# Altium schematic symbol library MicrochipTechnology.SchLib: 3 symbols
Pins are listed as number, name and electrical type; pins without a type are passive.

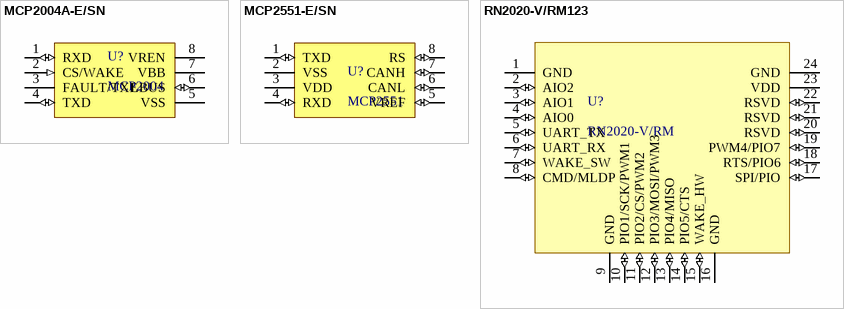
[diagram p0: symbols MCP2004A-E/SN to RN2020-V/RM123]

## MCP2004A-E/SN
designator U?, comment MCP2004
LIN Transceiver Michrochip Technology MCP2004A-E/SN
pins: 1 RXD (io), 2 CS/WAKE (in), 3 FAULT/TXE (power), 4 TXD (io), 5 VSS (power), 6 LBUS (io), 7 VBB (power), 8 VREN

## MCP2551-E/SN
designator U?, comment MCP2551
CAN Transceiver Michrochip Technology MCP2551-E/SN
pins: 1 TXD (io), 2 VSS (power), 3 VDD (power), 4 RXD (io), 5 VREF (io), 6 CANL (io), 7 CANH (io), 8 RS (io)

## RN2020-V/RM123
designator U?, comment RN2020-V/RM
Microchip RN4020 Bluetooth
footprint RN4020 MODULE-24 (Footprint not found)
footprint RN4020_ALT (Bluetooth BLE Module - Microchip)
pins: 1 GND (power), 2 AIO2 (io), 3 AIO1 (io), 4 AIO0 (io), 5 UART_TX (io), 6 UART_RX (io), 7 WAKE_SW (io), 8 CMD/MLDP (io), 9 GND (power), 10 PIO1/SCK/PWM1 (io), 11 PIO2/CS/PWM2 (io), 12 PIO3/MOSI/PWM3 (io), 13 PIO4/MISO (io), 14 PIO5/CTS (io), 15 WAKE_HW (io), 16 GND (power), 17 SPI/PIO (io), 18 RTS/PIO6 (io), 19 PWM4/PIO7 (io), 20 RSVD (io), 21 RSVD (io), 22 RSVD (io), 23 VDD (power), 24 GND (power)